# Altium footprint library AvionicsParts.PcbLib: 33 footprints (part 1 of 3)
Each footprint in its own frame and in the unit in brackets; x right, y up, seen from the top. Pads: shape width x height; smd on the part's side, far side on the other; paste and mask are expansions set on the pad; w line width, h text height; cw(c..) or ccw(c..) is an arc to the next point about the centre after c.
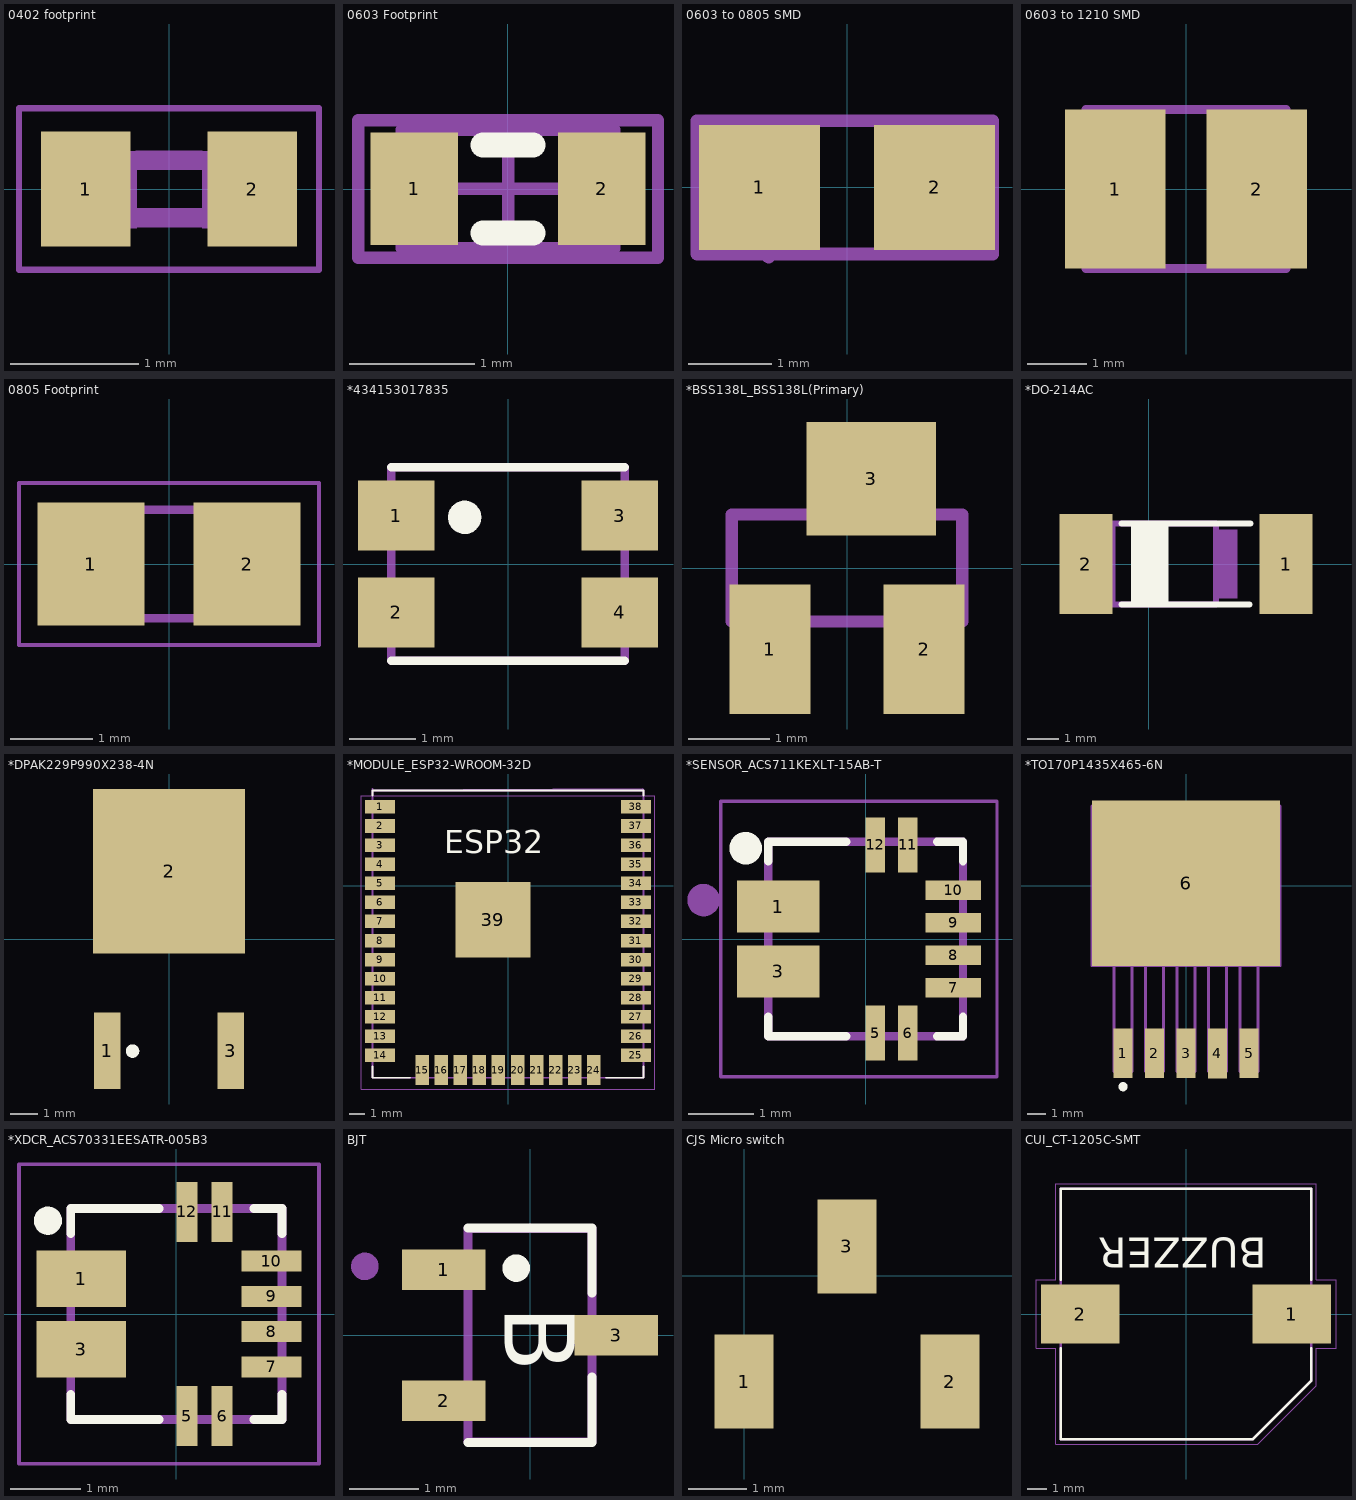
[diagram p0: the footprints below, top view; thin cyan lines are the x and y axes]

## 0402 footprint [mm]
pads (2):
  rect 0.7x0.9 smd: 1(-0.65,0) 2(0.65,0)
Mechanical 4:
  region: 0.259,0.295 0.559,0.295 0.559,-0.305 0.259,-0.305
  region: -0.555,0.295 -0.254,0.295 -0.254,-0.305 -0.555,-0.305
  region: 0.259,0.295 0.559,0.295 0.559,-0.305 0.259,-0.305
  region: -0.555,0.295 -0.254,0.295 -0.254,-0.305 -0.555,-0.305
  lines w0.152: -0.245,-0.224 0.245,-0.224 -0.245,-0.224 ; -0.245,0.224 0.245,0.224 -0.245,0.224
Mechanical 16:
  lines w0.051: -1.173,-0.633 -1.173,0.633 1.173,0.633 1.173,-0.633 -1.173,-0.633
3D body: height 0.25, standoff 0, extent -0.8,-0.35 0.8,0.35

## 0603 Footprint [mm]
pads (2):
  rect 0.7x0.9 smd: 1(-0.75,0) 2(0.75,0)
Top Overlay:
  lines w0.2: -0.2,-0.35 0.2,-0.35 ; -0.2,0.35 0.2,0.35
Mechanical 13:
  lines w0.1: -0.85,-0.475 0.85,-0.475 0.85,0.475 -0.85,0.475 -0.85,-0.475
Mechanical 15:
  lines w0.1: -0.475,0 0.475,0 ; 0,-0.475 0,0.475 ; -1.2,-0.55 1.2,-0.55 1.2,0.55 -1.2,0.55 -1.2,-0.55
3D body: height 0.9, standoff 0, extent -0.85,-0.475 0.85,0.475

## 0603 to 0805 SMD [mm]
pads (2):
  rect 1.45x1.5 smd: 1(-1.05,0) 2(1.05,0)
Mechanical 4:
  lines w0.152: -1.7,0.8 1,0.8 ; -0.94,-0.84 -0.95,-0.829 -0.96,0.8 -1.8,0.8 -1.8,-0.8 0.94,-0.8 0.94,0.796 ; 0.96,-0.8 1.75,-0.8 1.75,0.8 ; 1.75,-0.75 1.75,0.8 ; 0.94,0.796 1.75,0.8 ; 0.94,0.796 -0.95,0.8 -0.94,-0.796 0.94,-0.796 0.94,0.796
3D body: height 0.25, standoff 0, extent -1.175,-0.6 1.188,0.6

## 0603 to 1210 SMD [mm]
pads (2):
  rect 1.7x2.692 smd: 1(-1.2,0) 2(1.2,0)
Mechanical 4:
  lines w0.152: -1.702,-1.346 -1.702,1.346 ; -1.702,-1.346 -0.94,-1.346 ; -1.702,-1.346 -1.702,1.346 ; -1.702,-1.346 -0.94,-1.346 ; -1.702,1.346 -0.94,1.346 ; -1.702,1.346 -0.94,1.346 ; -0.94,-1.346 0.94,-1.346 ; -0.94,-1.346 -0.94,1.346 ; -0.94,-1.346 0.94,-1.346 ; -0.94,-1.346 -0.94,1.346 ; -0.94,1.346 0.94,1.346 ; -0.94,1.346 0.94,1.346 ; 0.94,-1.346 1.702,-1.346 ; 0.94,-1.346 0.94,1.346 ; 0.94,-1.346 1.702,-1.346 ; 0.94,-1.346 0.94,1.346 ; 0.94,1.346 1.702,1.346 ; 0.94,1.346 1.702,1.346 ; 1.702,-1.346 1.702,1.346 ; 1.702,-1.346 1.702,1.346
3D body: height 1.27, standoff 0, extent -1.7,-1.05 1.7,1.1

## 0805 Footprint [mm]
pads (2):
  rect 1.3x1.5 smd: 1(-0.95,0) 2(0.95,0)
Mechanical 4:
  region: -1.094,0.726 -0.342,0.726 -0.342,-0.725 -1.094,-0.725
  region: 0.356,0.726 1.106,0.726 1.106,-0.724 0.356,-0.724
  region: -1.094,0.726 -0.342,0.726 -0.342,-0.725 -1.094,-0.725
  region: 0.356,0.726 1.106,0.726 1.106,-0.724 0.356,-0.724
  lines w0.102: -0.381,0.66 0.381,0.66 -0.381,0.66 ; -0.356,-0.66 0.381,-0.66 -0.356,-0.66
Mechanical 16:
  lines w0.051: -1.823,-0.983 1.823,-0.983 1.823,0.983 -1.823,0.983 -1.823,-0.983
3D body: height 1.27, standoff 0, extent -1.15,-0.6 1.15,0.6

## *434153017835 [mm] "Pushbutton NO"
pads (4):
  rect 1.15x1.05 smd: 1(-1.675,0.725) 2(-1.675,-0.725) 3(1.675,0.725) 4(1.675,-0.725)
Top Overlay:
  circle w0.25: c-0.65,0.7 r0.125
  lines w0.127: -1.75,-1.45 1.75,-1.45 ; -1.75,1.45 1.75,1.45
Mechanical 4:
  lines w0.127: -1.75,-1.45 1.75,-1.45 ; -1.75,-1.45 -1.75,1.45 ; -1.75,-1.45 1.75,-1.45 ; -1.75,-1.45 -1.75,1.45 ; -1.75,1.45 1.75,1.45 ; -1.75,1.45 1.75,1.45 ; 1.75,-1.45 1.75,1.45 ; 1.75,-1.45 1.75,1.45

## *BSS138L_BSS138L(Primary) [mm]
pads (3):
  rect 1x1.6 smd: 1(-0.95,-1) 2(0.95,-1)
  rect 1.6x1.4 smd: 3(0.3,1.1)
Mechanical 4:
  region: -1.172,-0.711 -0.711,-0.711 -0.711,-1.299 -1.172,-1.299
  region: 0.713,-0.711 1.168,-0.711 1.168,-1.299 0.713,-1.299
  region: -1.172,-0.711 -0.711,-0.711 -0.711,-1.299 -1.172,-1.299
  region: 0.713,-0.711 1.168,-0.711 1.168,-1.299 0.713,-1.299
  lines w0.152: -1.422,-0.66 -1.422,0.66 ; -1.422,-0.66 1.422,-0.66 ; -1.422,-0.66 -1.422,0.66 ; -1.422,-0.66 1.422,-0.66 ; -1.422,0.66 1.422,0.66 ; -1.422,0.66 1.422,0.66 ; 1.422,-0.66 1.422,0.66 ; 1.422,-0.66 1.422,0.66
3D body: height 1, standoff 0.06, extent -1.45,-0.65 1.45,0.65

## *DO-214AC [mm]
pads (2):
  rect 1.7x3.2 smd: 1(4.4,0) 2(-2.025,0)
Top Overlay:
  region: -0.575,1.225 0.625,1.225 0.625,-1.225 -0.575,-1.225
  lines w0.203: -0.875,-1.3 3.225,-1.3 ; -0.875,1.3 3.25,1.3
Mechanical 4:
  region: -1.75,1.225 -1.075,1.225 -1.075,-1.225 -1.75,-1.225
  region: 2.825,-1.1 2.175,-1.1 2.175,1.1 2.825,1.1
  region: -2.825,1.1 -2.175,1.1 -2.175,-1.1 -2.825,-1.1
  region: -1.75,1.225 -1.075,1.225 -1.075,-1.225 -1.75,-1.225
  region: 2.825,-1.1 2.175,-1.1 2.175,1.1 2.825,1.1
  region: -2.825,1.1 -2.175,1.1 -2.175,-1.1 -2.825,-1.1
  lines w0.203: -2.15,-1.3 -2.15,1.3 ; -2.15,-1.3 2.15,-1.3 ; -2.15,-1.3 -2.15,1.3 ; -2.15,-1.3 2.15,-1.3 ; -2.15,1.3 2.15,1.3 ; -2.15,1.3 2.15,1.3 ; 2.15,-1.3 2.15,1.3 ; 2.15,-1.3 2.15,1.3
3D body: height 1.03, standoff 0, extent -2.35,-3.1 4.8,3.075
3D body: height 2.62, standoff 0, extent -2.363,-3.1 4.763,3.125
3D body: height 1.27, standoff 0, extent 0.525,1.625 0.525,1.625

## *DPAK229P990X238-4N [mm]
pads (3):
  rect 0.97x2.83 smd: 1(-2.29,-4.14) 3(2.29,-4.14)
  rect 5.63x6.09 smd: 2(0,2.51)
Top Overlay:
  circle w0.25: c-1.35,-4.15 r0.125
Top Paste:
  region: -0.655,3.24 0.655,3.24 0.655,1.78 -0.655,1.78
  region: -2.535,3.24 -1.225,3.24 -1.225,1.78 -2.535,1.78
  region: 1.225,3.24 2.535,3.24 2.535,1.78 1.225,1.78
  region: -2.535,5.27 -1.225,5.27 -1.225,3.81 -2.535,3.81
  region: -0.655,5.27 0.655,5.27 0.655,3.81 -0.655,3.81
  region: 1.225,5.27 2.535,5.27 2.535,3.81 1.225,3.81
  region: -2.535,1.21 -1.225,1.21 -1.225,-0.25 -2.535,-0.25
  region: -0.655,1.21 0.655,1.21 0.655,-0.25 -0.655,-0.25
  region: 1.225,1.21 2.535,1.21 2.535,-0.25 1.225,-0.25

## *MODULE_ESP32-WROOM-32D [mm]
pads (39):
  rect 2x0.9 smd: 1(-8.5,5.26) 2(-8.5,3.99) 3(-8.5,2.72) 4(-8.5,1.45) 5(-8.5,0.18) 6(-8.5,-1.09) 7(-8.5,-2.36) 8(-8.5,-3.63) 9(-8.5,-4.9) 10(-8.5,-6.17) 11(-8.5,-7.44) 12(-8.5,-8.71) 13(-8.5,-9.98) 14(-8.5,-11.25) 25(8.5,-11.25) 26(8.5,-9.98) 27(8.5,-8.71) 28(8.5,-7.44) 29(8.5,-6.17) 30(8.5,-4.9) 31(8.5,-3.63) 32(8.5,-2.36) 33(8.5,-1.09) 34(8.5,0.18) 35(8.5,1.45) 36(8.5,2.72) 37(8.5,3.99) 38(8.5,5.26)
  rect 0.9x2 smd: 15(-5.715,-12.25) 16(-4.445,-12.25) 17(-3.175,-12.25) 18(-1.905,-12.25) 19(-0.635,-12.25) 20(0.635,-12.25) 21(1.905,-12.25) 22(3.175,-12.25) 23(4.445,-12.25) 24(5.715,-12.25)
  rect 5x5 smd: 39(-1,-2.24)
Top Overlay:
  lines w0.127: -9,-12 -9,-12.75 -6.5,-12.75 ; -9,6 -9,6.35 9,6.35 9,6 ; 6.5,-12.75 9,-12.75 9,-12
  text "ESP32" at -4.25,2.175 h1.52
Top Paste:
  region: -2.584,-0.659 0.581,-0.659 0.581,-3.825 -2.584,-3.825
Mechanical 4:
  circle w0.3: c-8.277,5.238 r0.1
  circle w0.3: c-8.277,5.238 r0.1
  lines w0.127: 8.96,6.35 -8.96,6.35 8.96,6.45 ; -9,-12.75 9,-12.75 ; -9,-12.75 -9,6.45 -9,-12.75 ; -9,-12.75 9,-12.75 ; 9,-12.75 9,6.4 9,-12.75
Mechanical 16:
  lines w0.05: -9.75,-13.5 9.75,-13.5 9.75,6 9.25,6 -9.25,6 -9.75,6 -9.75,-13.5
3D body: height 0.25, standoff 0, extent 8.35,6.1 8.35,6.1
3D body: height 0.25, standoff 0, extent 8.7,6 8.7,6
3D body: height 3.1, standoff 0.9, extent -7.85,-11.6 7.85,5.35
3D body: height 0.9, standoff 0, extent -8.95,-12.7 8.95,12.7

## *SENSOR_ACS711KEXLT-15AB-T [mm]
pads (10):
  rect 1.27x0.8 smd: 1(-1.35,0.5) 3(-1.35,-0.5)
  rect 0.3x0.85 smd: 5(0.15,-1.45) 6(0.65,-1.45) 11(0.65,1.45) 12(0.15,1.45)
  rect 0.85x0.3 smd: 7(1.35,-0.75) 8(1.35,-0.25) 9(1.35,0.25) 10(1.35,0.75)
Top Overlay:
  circle w0.3: c-1.85,1.4 r0.1
  lines w0.127: -1.5,-1.2 -1.5,-1.5 -0.3,-1.5 ; -1.5,1.2 -1.5,1.5 -0.3,1.5 ; 1.1,-1.5 1.5,-1.5 1.5,-1.2 ; 1.1,1.5 1.5,1.5 1.5,1.2
Mechanical 4:
  circle w0.3: c-2.5,0.6 r0.1
  circle w0.3: c-2.5,0.6 r0.1
  lines w0.127: -1.5,-1.5 -1.5,1.5 ; -1.5,-1.5 1.5,-1.5 ; -1.5,-1.5 -1.5,1.5 ; -1.5,-1.5 1.5,-1.5 ; -1.5,1.5 1.5,1.5 ; -1.5,1.5 1.5,1.5 ; 1.5,-1.5 1.5,1.5 ; 1.5,-1.5 1.5,1.5
Mechanical 16:
  lines w0.05: -2.235,-2.125 -2.235,2.125 2.025,2.125 2.025,-2.125 -2.235,-2.125
3D body: height 1, standoff 0, extent -1.4,-1.4 1.4,1.4

## *TO170P1435X465-6N [mil]
pads (6):
  rect 40x106 smd: 1(-134,-356) 2(-67,-356) 3(0,-356) 4(66.93,-356.3) 5(134,-356)
  rect 400x352 smd: 6(0,6)
Top Overlay:
  circle w9.84: c-133.86,-427.17 r4.92
Mechanical 4:
  lines w6: -200,-170 -200,170 ; -200,-170 200,-170 ; -200,-170 -200,170 ; -200,-170 200,-170 ; -200,170 200,170 ; -200,170 200,170 ; -153,-395 -115,-395 ; -153,-395 -153,-170 ; -153,-395 -115,-395 ; -153,-395 -153,-170 ; -153,-170 -115,-170 ; -153,-170 -115,-170 ; -115,-395 -115,-170 ; -115,-395 -115,-170 ; -86,-395 -48,-395 ; -86,-395 -86,-170 ; -86,-395 -48,-395 ; -86,-395 -86,-170 ; -86,-170 -48,-170 ; -86,-170 -48,-170 ; -48,-395 -48,-170 ; -48,-395 -48,-170 ; -19,-395 19,-395 ; -19,-395 -19,-170 ; -19,-395 19,-395 ; -19,-395 -19,-170 ; -19,-170 19,-170 ; -19,-170 19,-170 ; 19,-395 19,-170 ; 19,-395 19,-170 ; 48,-395 86,-395 ; 48,-395 48,-170 ; 48,-395 86,-395 ; 48,-395 48,-170 ; 48,-170 86,-170 ; 48,-170 86,-170 ; 86,-395 86,-170 ; 86,-395 86,-170 ; 115,-395 153,-395 ; 115,-395 115,-170 ; 115,-395 153,-395 ; 115,-395 115,-170 ; 115,-170 153,-170 ; 115,-170 153,-170 ; 153,-395 153,-170 ; 153,-395 153,-170 ; 200,-170 200,170 ; 200,-170 200,170
3D body: height 10, standoff 0, extent -185.04,196.85 -185.04,196.85
3D body: height 50, standoff 0, extent -198.82,129.92 200.79,181.1
3D body: height 179.92, standoff 0, extent -198.82,-210.63 200.79,129.92
3D body: height 10, standoff 0, extent -122.05,-3.94 -122.05,-3.94
3D body: height 10, standoff 0, extent -265.75,-326.77 -265.75,-326.77
3D body: height 10, standoff 0, extent -287.4,-277.56 -287.4,-277.56
3D body: height 19.68, standoff 0, extent -149.6,-395.66 -118.11,-316.92
3D body: height 10, standoff 0, extent -120.08,-326.77 -120.08,-326.77
3D body: height 10, standoff 0, extent -51.18,-326.77 -51.18,-326.77
3D body: height 137.8, standoff 118.11, extent -149.6,-316.92 -118.11,-210.63
3D body: height 137.8, standoff 0, extent -149.6,-322.82 -118.1,-311.02
3D body: height 137.8, standoff 0, extent -82.67,-322.83 -51.18,-311.02
3D body: height 137.8, standoff 118.11, extent -82.68,-316.93 -51.18,-210.63
3D body: height 10, standoff 0, extent -53.15,-326.77 -53.15,-326.77
3D body: height 19.68, standoff 0, extent -82.68,-395.67 -51.18,-316.93
3D body: height 137.8, standoff 0, extent -14.76,-322.83 16.74,-311.02
3D body: height 137.8, standoff 118.11, extent -14.76,-316.93 16.73,-210.63
3D body: height 10, standoff 0, extent 14.76,-326.77 14.76,-326.77
3D body: height 19.68, standoff 0, extent -14.76,-395.67 16.73,-316.93
3D body: height 137.8, standoff 0, extent 51.19,-322.82 82.68,-311.02
3D body: height 137.8, standoff 118.11, extent 51.19,-316.92 82.68,-210.63
3D body: height 10, standoff 0, extent 82.68,-326.77 82.68,-326.77
3D body: height 19.68, standoff 0, extent 51.19,-395.66 82.68,-316.92
3D body: height 137.8, standoff 0, extent 118.11,-322.83 149.61,-311.02
3D body: height 137.8, standoff 118.11, extent 118.11,-316.93 149.61,-210.63
3D body: height 10, standoff 0, extent 147.64,-326.77 147.64,-326.77
3D body: height 19.68, standoff 0, extent 118.11,-395.67 149.61,-316.93
3D body: height 10, standoff 0, extent -318.9,-37.4 -318.9,-37.4

## *XDCR_ACS70331EESATR-005B3 [mm]
pads (10):
  rect 1.27x0.8 smd: 1(-1.35,0.5) 3(-1.35,-0.5)
  rect 0.3x0.85 smd: 5(0.15,-1.45) 6(0.65,-1.45) 11(0.65,1.45) 12(0.15,1.45)
  rect 0.85x0.3 smd: 7(1.35,-0.75) 8(1.35,-0.25) 9(1.35,0.25) 10(1.35,0.75)
Top Overlay:
  circle w0.2: c-1.825,1.325 r0.1
  lines w0.127: -1.5,-1.143 -1.5,-1.5 -0.246,-1.5 ; -1.5,1.143 -1.5,1.5 -0.25,1.5 ; 1.1,-1.5 1.5,-1.5 1.5,-1.145 ; 1.1,1.5 1.5,1.5 1.5,1.143
Mechanical 4:
  lines w0.127: -1.5,-1.5 1.5,-1.5 ; -1.5,-1.5 -1.5,1.5 ; -1.5,-1.5 1.5,-1.5 ; -1.5,-1.5 -1.5,1.5 ; -1.5,1.5 1.5,1.5 ; -1.5,1.5 1.5,1.5 ; 1.5,-1.5 1.5,1.5 ; 1.5,-1.5 1.5,1.5
Mechanical 16:
  lines w0.05: -2.235,-2.125 2.025,-2.125 2.025,2.125 -2.235,2.125 -2.235,-2.125
3D body: height 1.27, standoff 0, extent -1.4,-1.4 1.4,1.4

## BJT [mm]
pads (3):
  rect 1.21x0.59 smd: 1(-1.255,0.95) 2(-1.255,-0.95) 3(1.255,0)
Top Overlay:
  circle w0.2: c-0.2,0.975 r0.1
  lines w0.127: -0.9,-1.559 0.9,-1.559 0.9,-0.609 ; -0.9,1.559 0.9,1.559 0.9,0.609
  text "B" at -0.7,0.425 h1.75
Mechanical 4:
  circle w0.2: c-2.4,1 r0.1
  circle w0.2: c-2.4,1 r0.1
  lines w0.127: -0.9,-1.55 0.9,-1.55 ; -0.9,-1.55 -0.9,1.55 ; -0.9,-1.55 0.9,-1.55 ; -0.9,-1.55 -0.9,1.55 ; -0.9,1.55 0.9,1.55 ; -0.9,1.55 0.9,1.55 ; 0.9,-1.55 0.9,1.55 ; 0.9,-1.55 0.9,1.55
3D body: height 1, standoff 0.1, extent -0.9,-1.6 0.9,1.55

## CJS Micro switch [mm] "DIP- style shrouded switch"
pads (3):
  rect 1x1.6 smd: 1(0,-1.8) 2(3.5,-1.8) 3(1.75,0.5)
3D body: height 2.5, standoff 0, extent -1.05,-1.937 4.575,0.638
3D body: height 1.27, standoff 0, extent 5.85,-1.725 5.85,-1.725

## CUI_CT-1205C-SMT [mm]
pads (2):
  rect 4x3 smd: 1(5.4,0) 2(-5.4,0)
Top Overlay:
  lines w0.127: -6.4,-1.75 -6.4,-6.4 3.4,-6.4 6.4,-3.4 6.4,-1.75 ; -6.4,1.75 -6.4,6.4 6.4,6.4 6.4,1.75
  text "BUZZER" at 4.125,3.9 h1.52
Mechanical 1:
  region: -6.4,-6.2
Mechanical 4:
  lines w0.127: -6.4,-6.4 -6.4,6.4 ; -6.4,-6.4 3.4,-6.4 ; -6.4,-6.4 -6.4,6.4 ; -6.4,-6.4 3.4,-6.4 ; -6.4,6.4 6.4,6.4 ; -6.4,6.4 6.4,6.4 ; 3.4,-6.4 6.4,-3.4 ; 3.4,-6.4 6.4,-3.4 ; 6.4,-3.4 6.4,6.4 ; 6.4,-3.4 6.4,6.4
Mechanical 16:
  lines w0.05: -7.65,-1.75 -7.65,1.75 -6.65,1.75 -6.65,6.65 6.65,6.65 6.65,1.75 7.65,1.75 7.65,-1.75 6.65,-1.75 6.65,-3.65 3.65,-6.65 -6.65,-6.65 -6.65,-1.75 -7.65,-1.75
3D body: height 10, standoff 0.1, extent -6.4,-6.4 6.4,6.4
3D body: height 1.27, standoff 0, extent -6.45,6.35 -6.45,6.35
3D body: height 10, standoff 0, extent -6.3,-6.3 6.3,6.3